# Altium schematic symbol library RF Filter.SchLib: 14 symbols
Pins are listed as number, name and electrical type; pins without a type are passive.

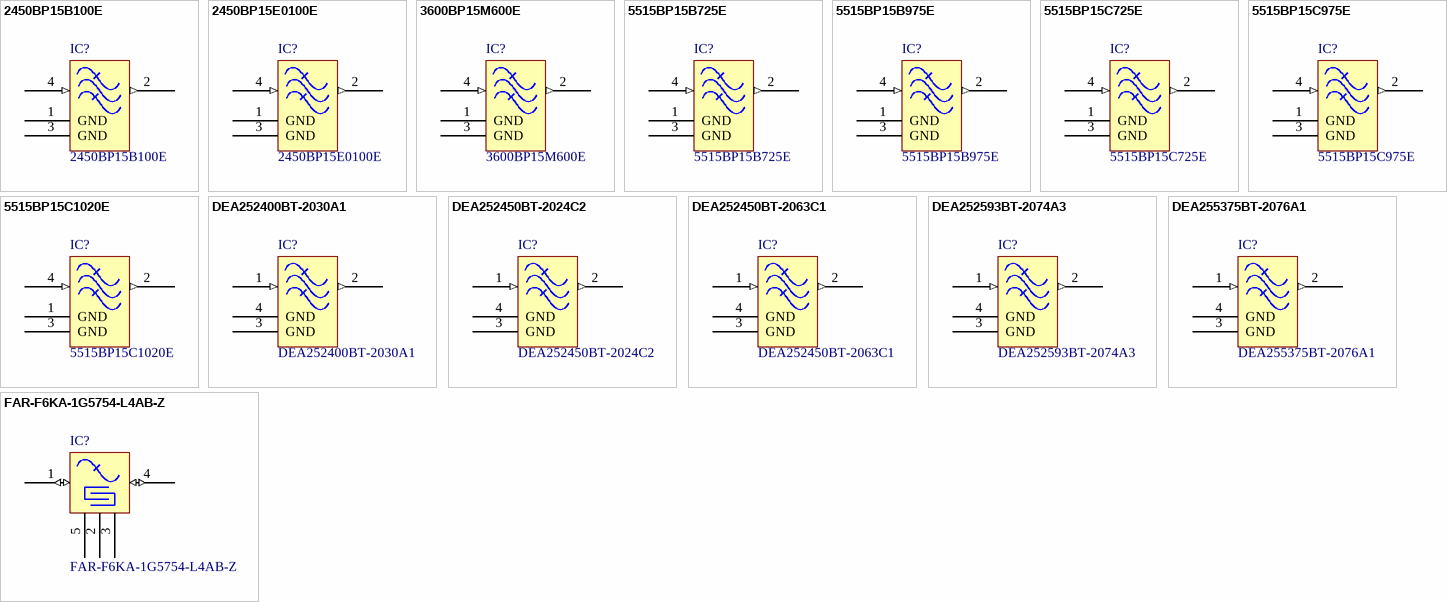
[diagram p0: symbols 2450BP15B100E to FAR-F6KA-1G5754-L4AB-Z]

## 2450BP15B100E
designator IC?
FILTER BANDPASS 2.4GHZ; Manufacturer: Johanson Technology Inc.; Frequency: 2.45GHz Center; Bandwidth: 100MHz; Insertion Loss: 2.2dB; Part Number: 2450BP15B100E; PartId: 9766; Supplier 1: Digi-Key; Supplier Part Number 1: 712-1078-2-ND; ComponentLink1Description: Datasheet; ComponentLink1URL: http://www.johansontechnology.com/datasheets/band-pass-filters/BP_Filter_2450BP15B100.pdf; ComponentLink2Description: Digi-Key Listing; ComponentLink2URL: https://www.digikey.com/product-detail/en/johanson-technology-inc/2450BP15B100E/712-1078-2-ND/1560749; Device Package: 0805 (2012 Metric), 4 PC Pad; Price: 0.2295; Series: -; Filter Type: Band Pass
footprint JOHANSON BP15 4PAD
pins: 1 GND "Desc1", 2 OUT (out) "Desc1", 3 GND "Desc1", 4 IN (in) "Desc1"

## 2450BP15E0100E
designator IC?
FILTER BANDPASS 2.4GHZ; Manufacturer: Johanson Technology Inc.; Frequency: 2.45GHz Center; Bandwidth: 100MHz; Insertion Loss: 1.5dB; Part Number: 2450BP15E0100E; PartId: 9765; Supplier 1: Digi-Key; Supplier Part Number 1: 712-1081-2-ND; ComponentLink1Description: Datasheet; ComponentLink1URL: http://www.johansontechnology.com/datasheets/band-pass-filters/2450BP15E0100.pdf; ComponentLink2Description: Digi-Key Listing; ComponentLink2URL: https://www.digikey.com/product-detail/en/johanson-technology-inc/2450BP15E0100E/712-1081-2-ND/1560752; Device Package: 0805 (2012 Metric), 4 PC Pad; Price: 0.204; Series: -; Filter Type: Band Pass
footprint JOHANSON BP15 4PAD
pins: 1 GND "Desc1", 2 OUT (out) "Desc1", 3 GND "Desc1", 4 IN (in) "Desc1"

## 3600BP15M600E
designator IC?
FILTER BANDPASS WIMAX 3.6GHZ; Manufacturer: Johanson Technology Inc.; Frequency: 3.6GHz Center; Bandwidth: 600MHz; Insertion Loss: 1.8dB; Part Number: 3600BP15M600E; PartId: 9767; Supplier 1: Digi-Key; Supplier Part Number 1: 712-1099-2-ND; ComponentLink1Description: Datasheet; ComponentLink1URL: http://media.digikey.com/pdf/Data%20Sheets/Johanson%20Technology/3600BP15M600.pdf; ComponentLink2Description: Digi-Key Listing; ComponentLink2URL: https://www.digikey.com/product-detail/en/johanson-technology-inc/3600BP15M600E/712-1099-2-ND/1560770; Device Package: 0805 (2012 Metric), 4 PC Pad; Price: 0.384; Series: -; Filter Type: Band Pass
footprint JOHANSON BP15 4PAD
pins: 1 GND "Desc1", 2 OUT (out) "Desc1", 3 GND "Desc1", 4 IN (in) "Desc1"

## 5515BP15B725E
designator IC?
FILTER BANDPASS 5.5GHZ WIFI; Manufacturer: Johanson Technology Inc.; Frequency: 5.5GHz Center; Bandwidth: 725MHz; Insertion Loss: 1.5dB; Part Number: 5515BP15B725E; PartId: 9770; Supplier 1: Digi-Key; Supplier Part Number 1: 712-1105-2-ND; ComponentLink1Description: Datasheet; ComponentLink1URL: http://www.johansontechnology.com/datasheets/band-pass-filters/5515BP15B725.pdf; ComponentLink2Description: Digi-Key Listing; ComponentLink2URL: https://www.digikey.com/product-detail/en/johanson-technology-inc/5515BP15B725E/712-1105-2-ND/1560776; Device Package: 0805 (2012 Metric), 4 PC Pad; Price: 0.2167; Series: -; Filter Type: Band Pass
footprint JOHANSON BP15 4PAD
pins: 1 GND "Desc1", 2 OUT (out) "Desc1", 3 GND "Desc1", 4 IN (in) "Desc1"

## 5515BP15B975E
designator IC?
FILTER BANDPASS 5.5GHZ WIFI; Manufacturer: Johanson Technology Inc.; Frequency: 5.5GHz Center; Bandwidth: 975MHz; Insertion Loss: 1.5dB; Part Number: 5515BP15B975E; PartId: 9771; Supplier 1: Digi-Key; Supplier Part Number 1: 712-1107-2-ND; ComponentLink1Description: Datasheet; ComponentLink1URL: http://www.johansontechnology.com/datasheets/band-pass-filters/5515BP15B975.pdf; ComponentLink2Description: Digi-Key Listing; ComponentLink2URL: https://www.digikey.com/product-detail/en/johanson-technology-inc/5515BP15B975E/712-1107-2-ND/1560778; Device Package: 0805 (2012 Metric), 4 PC Pad; Price: 0.1785; Series: -; Filter Type: Band Pass
footprint JOHANSON BP15 4PAD
pins: 1 GND "Desc1", 2 OUT (out) "Desc1", 3 GND "Desc1", 4 IN (in) "Desc1"

## 5515BP15C725E
designator IC?
FILTER BANDPASS 5.5GHZ WIFI; Manufacturer: Johanson Technology Inc.; Frequency: 5.5GHz Center; Bandwidth: 725MHz; Insertion Loss: 2.5dB; Part Number: 5515BP15C725E; PartId: 9769; Supplier 1: Digi-Key; Supplier Part Number 1: 712-1109-2-ND; ComponentLink1Description: Datasheet; ComponentLink1URL: http://www.johansontechnology.com/datasheets/band-pass-filters/JTI_Band-Pass-5515BP15C725_4-03.pdf; ComponentLink2Description: Digi-Key Listing; ComponentLink2URL: https://www.digikey.com/product-detail/en/johanson-technology-inc/5515BP15C725E/712-1109-2-ND/1560780; Device Package: 0805 (2012 Metric), 4 PC Pad; Price: 0.2167; Series: -; Filter Type: Band Pass
footprint JOHANSON BP15 4PAD
pins: 1 GND "Desc1", 2 OUT (out) "Desc1", 3 GND "Desc1", 4 IN (in) "Desc1"

## 5515BP15C975E
designator IC?
FILTER BANDPASS 5.5GHZ WIFI; Manufacturer: Johanson Technology Inc.; Frequency: 5.5GHz Center; Bandwidth: 975MHz; Insertion Loss: 2dB; Part Number: 5515BP15C975E; PartId: 9768; Supplier 1: Digi-Key; Supplier Part Number 1: 712-1136-2-ND; ComponentLink1Description: Datasheet; ComponentLink1URL: http://www.johansontechnology.com/datasheets/band-pass-filters/JTI_Band-Pass-5515BP15C975_5-03.pdf; ComponentLink2Description: Digi-Key Listing; ComponentLink2URL: https://www.digikey.com/product-detail/en/johanson-technology-inc/5515BP15C975E/712-1136-2-ND/1560807; Device Package: 0805 (2012 Metric), 4 PC Pad; Price: 0.1785; Series: -; Filter Type: Band Pass
footprint JOHANSON BP15 4PAD
pins: 1 GND "Desc1", 2 OUT (out) "Desc1", 3 GND "Desc1", 4 IN (in) "Desc1"

## 5515BP15C1020E
designator IC?
FILTER BANDPASS 5.5GHZ WIFI; Manufacturer: Johanson Technology Inc.; Frequency: 5.5GHz Center; Bandwidth: 1.02GHz; Insertion Loss: 1.5dB; Part Number: 5515BP15C1020E; PartId: 9764; Supplier 1: Digi-Key; Supplier Part Number 1: 712-1108-2-ND; ComponentLink1Description: Datasheet; ComponentLink1URL: http://www.johansontechnology.com/datasheets/band-pass-filters/5515BP15C1020.pdf; ComponentLink2Description: Digi-Key Listing; ComponentLink2URL: https://www.digikey.com/product-detail/en/johanson-technology-inc/5515BP15C1020E/712-1108-2-ND/1560779; Device Package: 0805 (2012 Metric), 4 PC Pad; Price: 0.1785; Series: -; Filter Type: Band Pass
footprint JOHANSON BP15 4PAD
pins: 1 GND "Desc1", 2 OUT (out) "Desc1", 3 GND "Desc1", 4 IN (in) "Desc1"

## DEA252400BT-2030A1
designator IC?
FILTER BANDPASS 2.4GHZ WLAN SMD; Manufacturer: TDK Corporation; Frequency: 2.4GHz Center; Bandwidth: 200MHz; Insertion Loss: 1.4dB; Part Number: DEA252400BT-2030A1; PartId: 9759; Supplier 1: Digi-Key; Supplier Part Number 1: 445-3255-2-ND; ComponentLink1Description: Datasheet; ComponentLink1URL: https://product.tdk.com/info/en/documents/data_sheet/rf_bpf_dea252400bt-2030a1_en.pdf; ComponentLink2Description: Digi-Key Listing; ComponentLink2URL: https://www.digikey.com/product-detail/en/tdk-corporation/DEA252400BT-2030A1/445-3255-2-ND/1211466; Device Package: 1008 (2520 Metric), 4 PC Pad; Price: 0.6667; Series: DEA; Filter Type: Band Pass
footprint TDK 1008 4PAD
pins: 1 IN (in) "Desc1", 2 OUT (out) "Desc1", 3 GND "Desc1", 4 GND "Desc1"

## DEA252450BT-2024C2
designator IC?
FILTER BANDPASS 2.4GHZ WLAN SMD; Manufacturer: TDK Corporation; Frequency: 2.44GHz Center; Bandwidth: 80MHz; Insertion Loss: 2.25dB; Part Number: DEA252450BT-2024C2; PartId: 9762; Supplier 1: Digi-Key; Supplier Part Number 1: 445-3253-2-ND; ComponentLink1Description: Datasheet; ComponentLink1URL: https://product.tdk.com/info/en/documents/data_sheet/rf_bpf_dea252450bt-2024c2_en.pdf; ComponentLink2Description: Digi-Key Listing; ComponentLink2URL: https://www.digikey.com/product-detail/en/tdk-corporation/DEA252450BT-2024C2/445-3253-2-ND/1211464; Device Package: 1008 (2520 Metric), 4 PC Pad; Price: 0.6667; Series: DEA; Filter Type: Band Pass
footprint TDK 1008 4PAD
pins: 1 IN (in) "Desc1", 2 OUT (out) "Desc1", 3 GND "Desc1", 4 GND "Desc1"

## DEA252450BT-2063C1
designator IC?
FILTER BANDPASS WLAN&BLUETOOTH; Manufacturer: TDK Corporation; Frequency: 2.45GHz Center; Bandwidth: 100MHz; Insertion Loss: 2.5dB; Part Number: DEA252450BT-2063C1; PartId: 9761; Supplier 1: Digi-Key; Supplier Part Number 1: 445-3975-2-ND; ComponentLink1Description: Datasheet; ComponentLink1URL: https://product.tdk.com/info/en/documents/data_sheet/rf_bpf_dea252450bt-2063c1_en.pdf; ComponentLink2Description: Digi-Key Listing; ComponentLink2URL: https://www.digikey.com/product-detail/en/tdk-corporation/DEA252450BT-2063C1/445-3975-2-ND/1955526; Device Package: 1008 (2520 Metric), 4 PC Pad; Price: 0.6667; Series: DEA; Filter Type: Band Pass
footprint TDK 1008 4PAD
pins: 1 IN (in) "Desc1", 2 OUT (out) "Desc1", 3 GND "Desc1", 4 GND "Desc1"

## DEA252593BT-2074A3
designator IC?
FILTER BANDPASS 2.5 GHZ WIMAX; Manufacturer: TDK Corporation; Frequency: 2.593GHz Center; Bandwidth: 194MHz; Insertion Loss: 1.7dB; Part Number: DEA252593BT-2074A3; PartId: 9763; Supplier 1: Digi-Key; Supplier Part Number 1: 445-3976-2-ND; ComponentLink1Description: Datasheet; ComponentLink1URL: https://product.tdk.com/info/en/documents/data_sheet/rf_bpf_dea252593bt-2074a3_en.pdf; ComponentLink2Description: Digi-Key Listing; ComponentLink2URL: https://www.digikey.com/product-detail/en/tdk-corporation/DEA252593BT-2074A3/445-3976-2-ND/1955528; Device Package: 1008 (2520 Metric), 4 PC Pad; Price: 0.6667; Series: DEA; Filter Type: Band Pass
footprint TDK 1008 4PAD
pins: 1 IN (in) "Desc1", 2 OUT (out) "Desc1", 3 GND "Desc1", 4 GND "Desc1"

## DEA255375BT-2076A1
designator IC?
FILTER BANDPASS 5 GHZ WLAN SMD; Manufacturer: TDK Corporation; Frequency: 5.375GHz Center; Bandwidth: 950MHz; Insertion Loss: 1.2dB; Part Number: DEA255375BT-2076A1; PartId: 9760; Supplier 1: Digi-Key; Supplier Part Number 1: 445-3977-2-ND; ComponentLink1Description: Datasheet; ComponentLink1URL: https://product.tdk.com/info/en/documents/data_sheet/rf_bpf_dea255375bt-2076a1_en.pdf; ComponentLink2Description: Digi-Key Listing; ComponentLink2URL: https://www.digikey.com/product-detail/en/tdk-corporation/DEA255375BT-2076A1/445-3977-2-ND/1955530; Device Package: 1008 (2520 Metric), 4 PC Pad; Price: 0.6667; Series: DEA; Filter Type: Band Pass
footprint TDK 1008 4PAD
pins: 1 IN (in) "Desc1", 2 OUT (out) "Desc1", 3 GND "Desc1", 4 GND "Desc1"

## FAR-F6KA-1G5754-L4AB-Z
designator IC?
FILTER SAW 1.5754GHZ GPS SMD; Manufacturer: Taiyo Yuden; Frequency: 1.575GHz Center; Bandwidth: 2MHz; Filter Type: Band Pass; Insertion Loss: 0.44dB; Part Number: FAR-F6KA-1G5754-L4AB-Z; PartId: 9758; Supplier 1: Digi-Key; Supplier Part Number 1: 587-2995-2-ND; ComponentLink1Description: Datasheet; ComponentLink1URL: http://www.yuden.co.jp/productdata/catalog/en/sawfilter01_e.pdf; ComponentLink2Description: Digi-Key Listing; ComponentLink2URL: http://www.digikey.com/product-detail/en/taiyo-yuden/FAR-F6KA-1G5754-L4AB-Z/587-2995-2-ND/2638078; Device Package: 5-SMD, No Lead; Price: 0.24; Type: SAW Filters; Series: F6
footprint TAIYO YUDEN SMD-5 1.4x1mm
pins: 1 IN (io) "Desc1", 2 GND "Desc1", 3 GND "Desc1", 4 OUT (io) "Desc1", 5 GND "Desc1"